# Altium schematic symbol library 1645PY2T.Schlib: 1 symbol
Pins are listed as number, name and electrical type; pins without a type are passive.

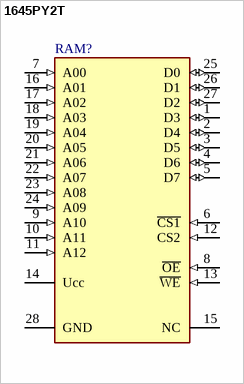
[diagram p0: symbol 1645PY2T]

## 1645PY2T
designator RAM?
64Кбит Микросхема статического оперативно запоминающего устройства
footprint 4119.28-6
pins: 1 D3 (io), 2 D4 (io), 3 D5 (io), 4 D6 (io), 5 D7 (io), 6 ~{CS1} (in), 7 A00 (in), 8 ~{OE} (in), 9 A10 (in), 10 A11 (in), 11 A12 (in), 12 CS2 (in), 13 ~{WE} (in), 14 Ucc (power), 15 NC, 16 A01 (in), 17 A02 (in), 18 A03 (in), 19 A04 (in), 20 A05 (in), 21 A06 (in), 22 A07 (in), 23 A08 (in), 24 A09 (in), 25 D0 (io), 26 D1 (io), 27 D2 (io), 28 GND (power)